# Altium footprint library Quectel-LC86L.PcbLib: 1 footprints
Each footprint in its own frame and in the unit in brackets; x right, y up, seen from the top. Pads: shape width x height; smd on the part's side, far side on the other; paste and mask are expansions set on the pad; w line width, h text height; cw(c..) or ccw(c..) is an arc to the next point about the centre after c.
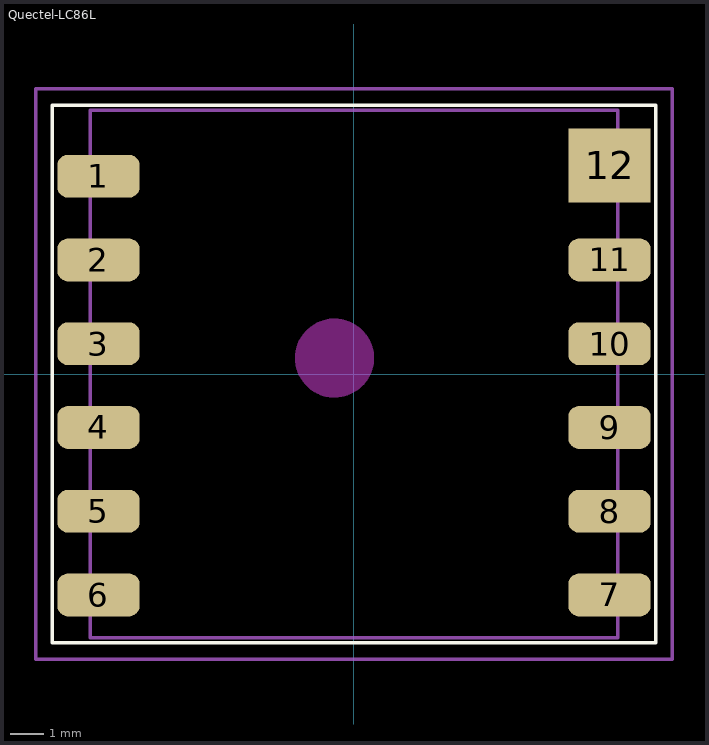
[diagram p0: the footprint, top view; thin cyan lines are the x and y axes]

## Quectel-LC86L [mm]
pads (12):
  rrect50% 2.5x1.3 smd: 1(-7.75,5.999) 2(-7.75,3.459) 3(-7.75,0.919) 4(-7.75,-1.621) 5(-7.75,-4.161) 6(-7.75,-6.701) 7(7.75,-6.701) 8(7.75,-4.161) 9(7.75,-1.621) 10(7.75,0.919) 11(7.75,3.459)
  rect 2.5x2.25 smd: 12(7.75,6.326)
Top Overlay:
  lines w0.1: -9.15,-8.15 9.15,-8.15 9.15,8.15 -9.15,8.15 -9.15,-8.15
Keep-Out Layer:
  circle w1.2: c-0.59,0.482 r0.6
Top 3D Body:
  lines w0.1: -8,-8 8,-8 8,8 -8,8 -8,-8
  text "1" at -6.858,6.096 h1.52
Top Courtyard:
  lines w0.1: -9.65,-8.65 9.65,-8.65 9.65,8.65 -9.65,8.65 -9.65,-8.65
Top Designator (Mech29):
  text ".Designator" at -5.633,9.319 h1
3D body: height 6.95, standoff 0, extent -8.008,-8.001 8,8.031